# EAGLE library part G7L (library WFR2020)
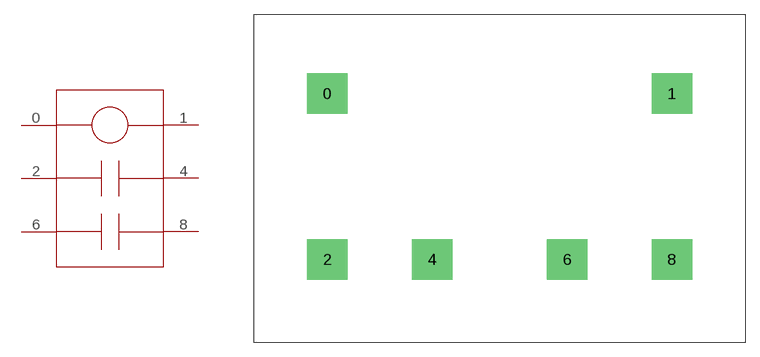
[diagram p6: symbol with the pads of G7L; footprint G7L]

Designator prefix -

## G7L  [G7L]
0  0
1  1
2  2
4  4
6  6
8  8

## Footprint G7L (pad centres in mm)
drill 3.3 square: 0 0,0; 1 36.8,0; 2 0,-17.7; 4 11.2,-17.7; 6 25.6,-17.7; 8 36.8,-17.7